# EAGLE library part LAN9514 (library PP_DigitalIC)
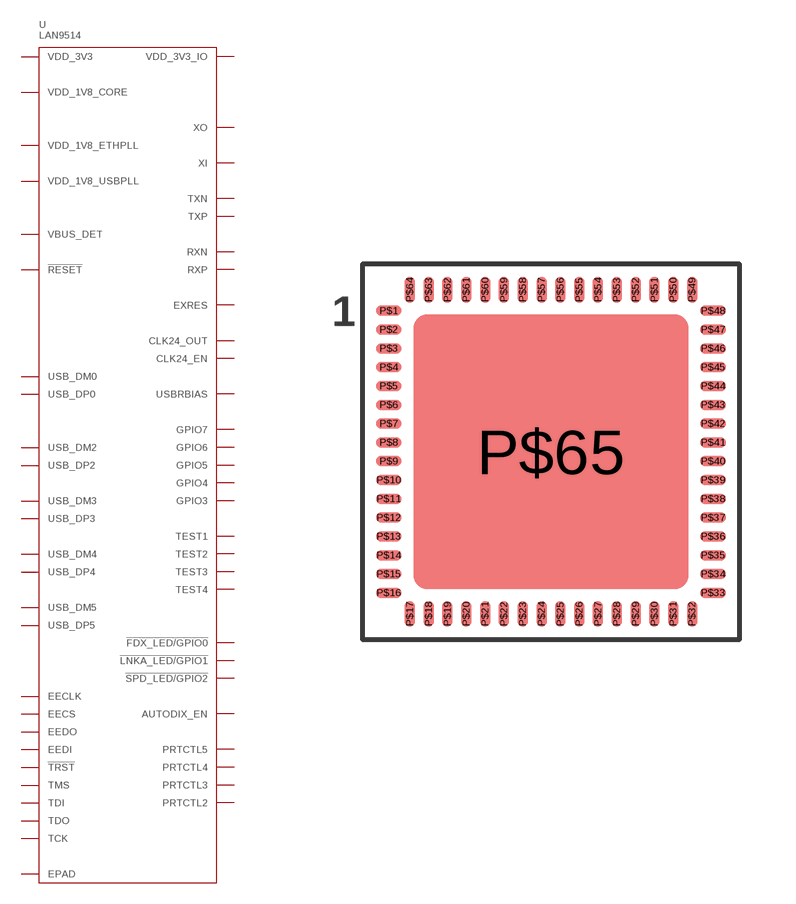
[diagram p36: symbol with the pads of LAN9514_QFN-64; footprint LAN9514_QFN-64]

Designator prefix U

## LAN9514  [LAN9514_QFN-64]
P$1  USB_DM2
P$2  USB_DP2
P$3  USB_DM3
P$4  USB_DP3
P$5  VDD_3V3
P$6  USB_DM4
P$7  USB_DP4
P$8  USB_DM5
P$9  USB_DP5
P$10  VDD_3V3
P$11  VBUS_DET
P$12  !RESET
P$13  TEST1
P$14  PRTCTL2
P$15  VDD_1V8_CORE
P$16  PRTCTL3
P$17  PRTCTL4
P$18  PRTCTL5
P$19  VDD_3V3_IO
P$20  !FDX_LED/GPIO0
P$21  !LNKA_LED/GPIO1
P$22  !SPD_LED/GPIO2
P$23  EECLK
P$24  EECS
P$25  EEDO
P$26  EEDI
P$27  VDD_3V3_IO
P$28  !TRST
P$29  TMS
P$30  TDI
P$31  TDO
P$32  TCK
P$33  VDD_3V3_IO
P$34  TEST2
P$35  GPIO3
P$36  GPIO4
P$37  GPIO5
P$38  VDD_1V8_CORE
P$39  VDD_3V3_IO
P$40  TEST3
P$41  AUTODIX_EN
P$42  GPIO6
P$43  GPIO7
P$44  CLK24_EN
P$45  CLK24_OUT
P$46  VDD_3V3_IO
P$47  TEST4
P$48  VDD_1V8_ETHPLL
P$49  VDD_3V3
P$50  EXRES
P$51  VDD_3V3
P$52  RXP
P$53  RXN
P$54  VDD_3V3
P$55  TXP
P$56  TXN
P$57  VDD_3V3
P$58  USB_DM0
P$59  USB_DP0
P$60  XO
P$61  XI
P$62  VDD_1V8_USBPLL
P$63  USBRBIAS
P$64  VDD_3V3
P$65  EPAD

## Footprint LAN9514_QFN-64 (pad centres in mm)
smd 0.69 x 0.28: P$1 -4.31,3.75; P$2 -4.31,3.25; P$3 -4.31,2.75; P$4 -4.31,2.25; P$5 -4.31,1.75; P$6 -4.31,1.25; P$7 -4.31,0.75; P$8 -4.31,0.25; P$9 -4.31,-0.25; P$10 -4.31,-0.75; P$11 -4.31,-1.25; P$12 -4.31,-1.75; P$13 -4.31,-2.25; P$14 -4.31,-2.75; P$15 -4.31,-3.25; P$16 -4.31,-3.75; P$33 4.31,-3.75; P$34 4.31,-3.25; P$35 4.31,-2.75; P$36 4.31,-2.25; P$37 4.31,-1.75; P$38 4.31,-1.25; P$39 4.31,-0.75; P$40 4.31,-0.25; P$41 4.31,0.25; P$42 4.31,0.75; P$43 4.31,1.25; P$44 4.31,1.75; P$45 4.31,2.25; P$46 4.31,2.75; P$47 4.31,3.25; P$48 4.31,3.75
smd 0.28 x 0.69: P$17 -3.75,-4.31; P$18 -3.25,-4.31; P$19 -2.75,-4.31; P$20 -2.25,-4.31; P$21 -1.75,-4.31; P$22 -1.25,-4.31; P$23 -0.75,-4.31; P$24 -0.25,-4.31; P$25 0.25,-4.31; P$26 0.75,-4.31; P$27 1.25,-4.31; P$28 1.75,-4.31; P$29 2.25,-4.31; P$30 2.75,-4.31; P$31 3.25,-4.31; P$32 3.75,-4.31; P$49 3.75,4.31; P$50 3.25,4.31; P$51 2.75,4.31; P$52 2.25,4.31; P$53 1.75,4.31; P$54 1.25,4.31; P$55 0.75,4.31; P$56 0.25,4.31; P$57 -0.25,4.31; P$58 -0.75,4.31; P$59 -1.25,4.31; P$60 -1.75,4.31; P$61 -2.25,4.31; P$62 -2.75,4.31; P$63 -3.25,4.31; P$64 -3.75,4.31
smd 7.3 x 7.3: P$65 0,0